# Altium schematic symbol library Wurth Electronics Inc Top LED.SchLib: 1 symbol
Pins are listed as number, name and electrical type; pins without a type are passive.

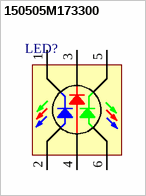
[diagram p0: symbol 150505M173300]

## 150505M173300
designator LED?
Red, Green, Blue (RGB) 625nm Red, 520nm Green, 470nm Blue LED Indication - Discrete 2V Red, 3.2V Green, 3.2V Blue 6-SMD, J-Lead; Manufacturer: Wurth Electronics Inc.; PartNumber: 150505M173300; Package: 6-PLCC; PackageDescription: 6-SMD, J-Lead, Body 5.0 x 5.0mm; Supplier 1: Digi-Key; Supplier Part Number 1: 732-12000-2-ND
footprint SOJ175P540X180-6L (SOJ, 6-Leads, Body 5.2x5.6mm (max), Pitch 1.75mm, IPC High Density)
footprint SOJ175P540X180-6M (SOJ, 6-Leads, Body 5.2x5.6mm (max), Pitch 1.75mm, IPC Low Density)
footprint SOJ175P540X180-6N (SOJ, 6-Leads, Body 5.2x5.6mm (max), Pitch 1.75mm, IPC Medium Density)
3D model Download_STP_WL-SFTW-150352M1xxx_(rev1) (PCB3D Model)
pins: 1, 2, 3, 4, 5, 6